# Altium schematic symbol library BTA41-600BRG.SchLib: 1 symbol
Pins are listed as number, name and electrical type; pins without a type are passive.

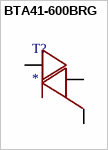
[diagram p0: symbol BTA41-600BRG]

## BTA41-600BRG
designator T?
footprint TOP3-3
footprint TOP3-2
footprint TOP3-1
pins: 1 T1, 2 T2, 3 G "Termal Pad"